# EAGLE library part ADUM1301 (library LoganSmith-DiscreteSemi)
3-channel 2.5kV digital isolator, 2/1 split Datasheet <http://www.analog.com/static/imported-files/data_sheets/ADuM1300_1301.pdf>
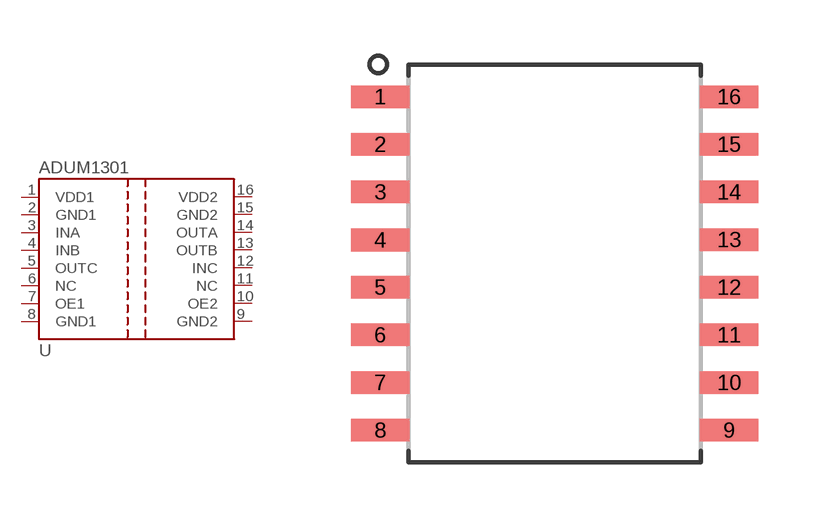
[diagram p1: symbol with the pads of 16-SOIC-WIDE; footprint 16-SOIC-WIDE]

Designator prefix U

## ADUM1301ARW (DESC: Digital isolator 2.5kV general purpose magnetic coupling 3 channel 2/1 split; DIGIKEY_OC: ADUM1301ARWZ-RLCT-ND; HEIGHT: 2.65mm; MFR: Analog Devices Inc; MPN: ADUM1301ARWZ-RL; TEMP: -40C to 105C; VALUE: ADUM1301)  [16-SOIC-WIDE]
1  VDD1  pwr
2  GND1  pwr
3  INA  in
4  INB  in
5  OUTC  out
6  NC  nc
7  OE1  in
8  GND1  pwr
9  GND2  pwr
10  OE2  in
11  NC  nc
12  INC  in
13  OUTB  out
14  OUTA  out
15  GND2  pwr
16  VDD2  pwr

## Footprint 16-SOIC-WIDE (pad centres in mm)
SOIC-16 Wide Footprint, Page 91 <http://ww1.microchip.com/downloads/en/PackagingSpec/00049AW.pdf>
smd 1.55 x 0.6: 1 -4.65,4.445; 2 -4.65,3.175; 3 -4.65,1.905; 4 -4.65,0.625; 5 -4.65,-0.635; 6 -4.65,-1.905; 7 -4.65,-3.175; 8 -4.65,-4.445; 9 4.65,-4.445; 10 4.65,-3.175; 11 4.65,-1.905; 12 4.65,-0.635; 13 4.65,0.635; 14 4.65,1.905; 15 4.65,3.175; 16 4.65,4.445